# Altium footprint library BU04_KIT.PcbLib: 1 footprints
Each footprint in its own frame and in the unit in brackets; x right, y up, seen from the top. Pads: shape width x height; smd on the part's side, far side on the other; paste and mask are expansions set on the pad; w line width, h text height; cw(c..) or ccw(c..) is an arc to the next point about the centre after c.
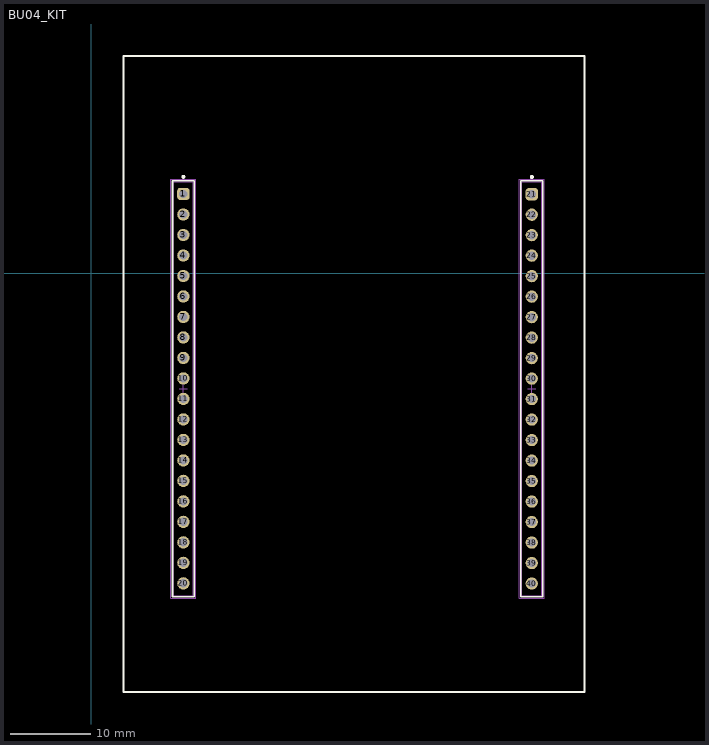
[diagram p0: the footprint, top view; thin cyan lines are the x and y axes]

## BU04_KIT [mm] "Socket Header, Pitch 2.54 mm, THT, Vertical, single row, 20p"
height 8.5
pads (40):
  rrect50% 1.52x1.52 hole 1.02: 1(11.422,9.806) 21(54.61,9.779)
  round 1.52 hole 1.02: 2(11.422,7.266) 3(11.422,4.726) 4(11.422,2.186) 5(11.422,-0.354) 6(11.422,-2.894) 7(11.422,-5.434) 8(11.422,-7.974) 9(11.422,-10.514) 10(11.422,-13.054) 11(11.422,-15.594) 12(11.422,-18.134) 13(11.422,-20.674) 14(11.422,-23.214) 15(11.422,-25.754) 16(11.422,-28.294) 17(11.422,-30.834) 18(11.422,-33.374) 19(11.422,-35.914) 20(11.422,-38.454) 22(54.61,7.239) 23(54.61,4.699) 24(54.61,2.159) 25(54.61,-0.381) 26(54.61,-2.921) 27(54.61,-5.461) 28(54.61,-8.001) 29(54.61,-10.541) 30(54.61,-13.081) 31(54.61,-15.621) 32(54.61,-18.161) 33(54.61,-20.701) 34(54.61,-23.241) 35(54.61,-25.781) 36(54.61,-28.321) 37(54.61,-30.861) 38(54.61,-33.401) 39(54.61,-35.941) 40(54.61,-38.481)
Top Overlay:
  circle w0.25: c11.422,11.936 r0.125
  circle w0.25: c54.61,11.909 r0.125
  lines w0.2: 10.072,-40.099 10.072,11.451 12.772,11.451 12.772,-40.099 10.072,-40.099 ; 53.26,-40.126 53.26,11.424 55.96,11.424 55.96,-40.126 53.26,-40.126
  lines w0.254: 3.997,-51.943 61.147,-51.943 61.147,26.927 3.997,26.927 3.997,-51.943
Top Component Outline:
  lines w0.1: 10.172,-39.974 10.172,11.326 12.672,11.326 12.672,-39.974 10.172,-39.974 ; 53.36,-40.001 53.36,11.299 55.86,11.299 55.86,-40.001 53.36,-40.001
Top Courtyard:
  lines w0.05: 9.872,-40.299 9.872,11.651 12.972,11.651 12.972,-40.299 9.872,-40.299 ; 53.06,-40.326 53.06,11.624 56.16,11.624 56.16,-40.326 53.06,-40.326
Top Component Center:
  lines w0.05: 10.922,-14.324 11.922,-14.324 ; 11.422,-14.824 11.422,-13.824 ; 54.11,-14.351 55.11,-14.351 ; 54.61,-14.851 54.61,-13.851
3D body "61302011821.stp": height 8.55, standoff -3.06, extent 10.172,-39.974 12.672,11.326
3D body "61302011821.stp": height 8.55, standoff -3.06, extent 53.36,-40.001 55.86,11.299